# Altium integrated library xuf_0402.IntLib: 1 symbol
Pins are listed as number, name and electrical type; pins without a type are passive.

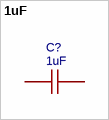
[diagram p0: symbol 1uF]

## 1uF
designator C?
Manufacturer: YAGEO(国巨); Manufacturer Part: AC0402KRX5R5BB105; nameAlias: Value; Contributor: lcsc; Supplier: LCSC; Supplier Part: C3873469; JLCPCB Part Class: Extended Part; spicePre: C; spiceSymbolName: AC0402KRX5R5BB105
footprint C0402
pins: 1, 2